# Altium footprint library Mechanical Components.PcbLib: 50 footprints (part 3 of 4)
Each footprint in its own frame and in the unit in brackets; x right, y up, seen from the top. Pads: shape width x height; smd on the part's side, far side on the other; paste and mask are expansions set on the pad; w line width, h text height; cw(c..) or ccw(c..) is an arc to the next point about the centre after c.
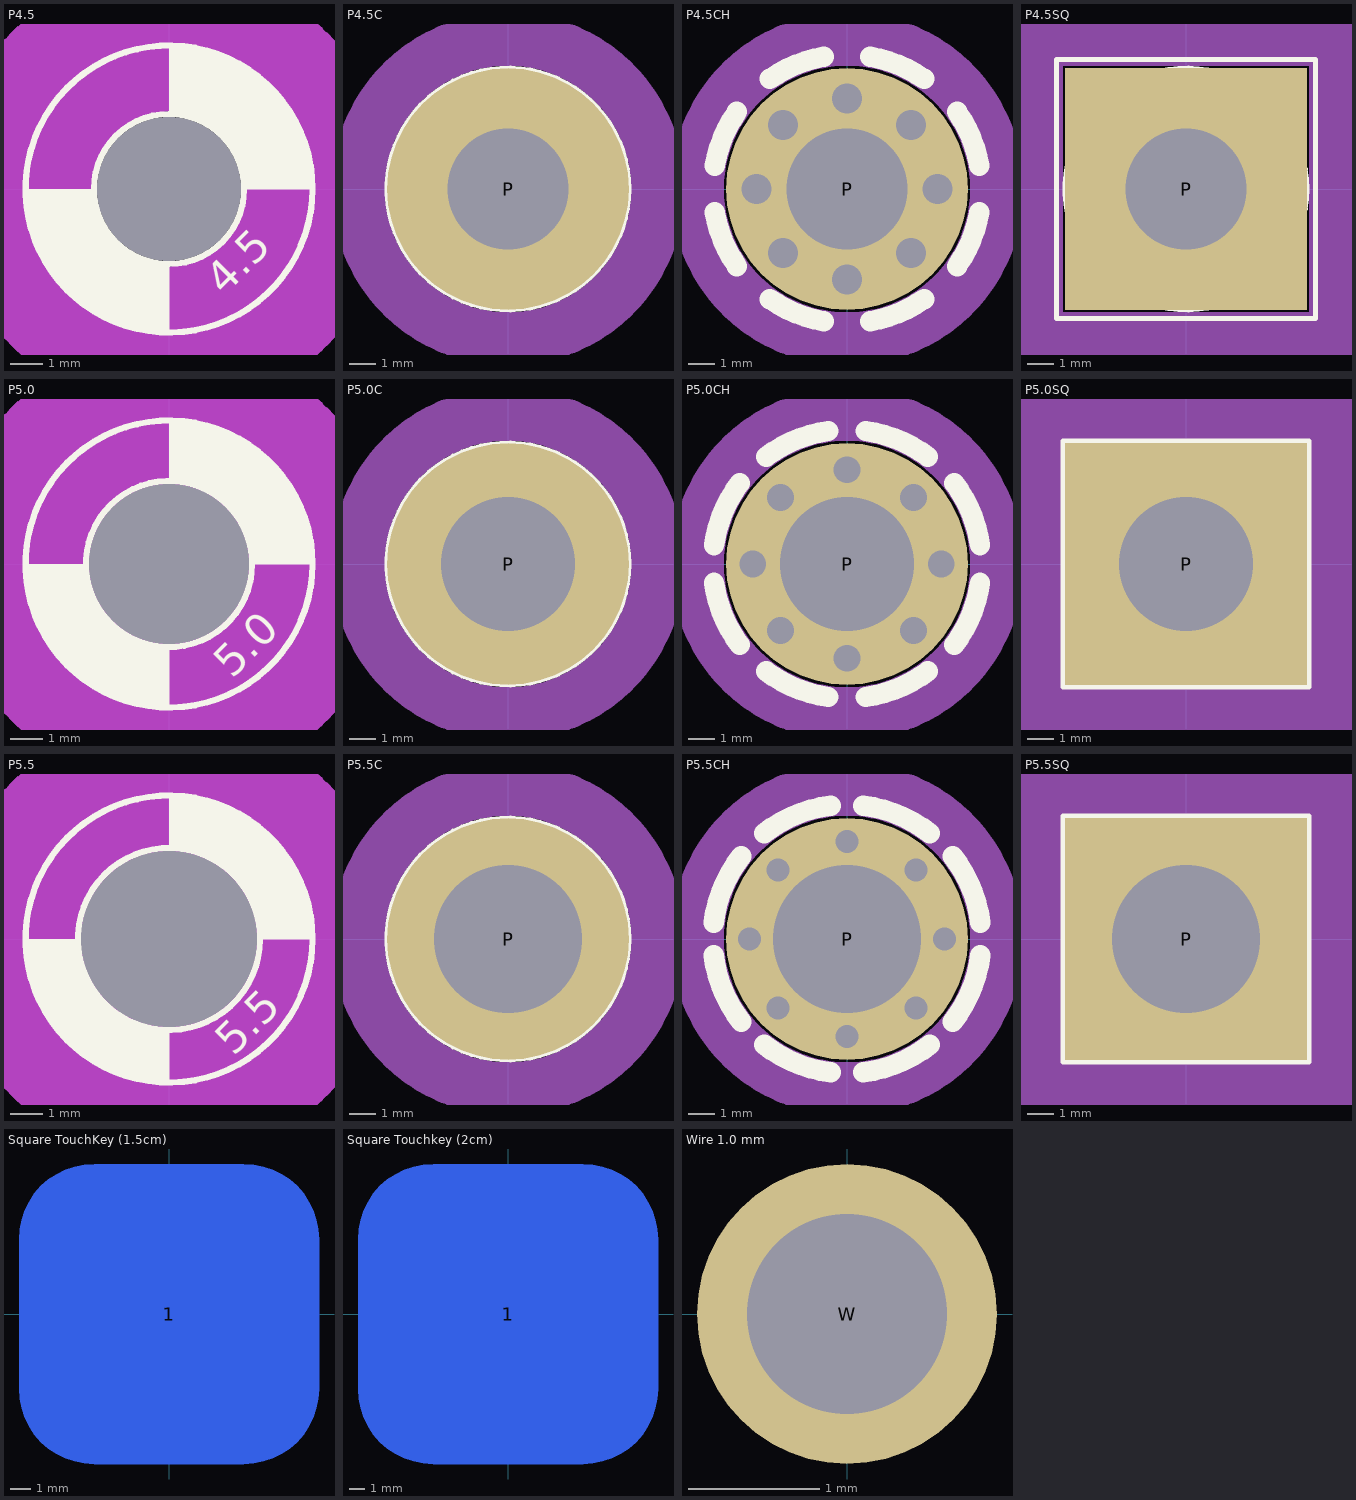
[diagram p2: the footprints below, top view; thin cyan lines are the x and y axes]

## P4.5 [mm] "MOUNTING HOLE 4.5 mm with drill center"
pads (1):
  round 0 hole 4.5 unplated: MH(0,0)
Top Overlay:
  circle w0.2: c0,0 r4.496
  circle w0.2: c0,0 r2.35
  region: 0,-2.35 -0.23,-2.339 -0.682,-2.249 -1.108,-2.073 -1.491,-1.817 -1.817,-1.491 -2.073,-1.108 -2.249,-0.682 -2.339,-0.23 -2.35,0 -4.496,0 -4.496,-0.295 -4.419,-0.879 -4.266,-1.448 -4.041,-1.993 -3.746,-2.503 -3.387,-2.971 -2.971,-3.387 -2.503,-3.746 -1.993,-4.041 -1.448,-4.266 -0.879,-4.419 -0.295,-4.496 0,-4.496
  region: 0,2.35 0.23,2.339 0.682,2.249 1.108,2.073 1.491,1.817 1.817,1.491 2.073,1.108 2.249,0.682 2.339,0.23 2.35,0 4.496,0 4.496,0.295 4.419,0.879 4.266,1.448 4.041,1.993 3.746,2.503 3.387,2.971 2.971,3.387 2.503,3.746 1.993,4.041 1.448,4.266 0.879,4.419 0.295,4.496 0,4.496
  text "4.5" at 1.727,-3.378 h1
Bottom Overlay:
  circle w0.2: c0,0 r2.35
  circle w0.2: c0,0 r4.496
  region: 0,2.35 0.23,2.339 0.682,2.249 1.108,2.073 1.491,1.817 1.817,1.491 2.073,1.108 2.249,0.682 2.339,0.23 2.35,0 4.496,0 4.496,0.295 4.419,0.879 4.266,1.448 4.041,1.993 3.746,2.503 3.387,2.971 2.971,3.387 2.503,3.746 1.993,4.041 1.448,4.266 0.879,4.419 0.295,4.496 0,4.496
  region: 0,-2.35 -0.23,-2.339 -0.682,-2.249 -1.108,-2.073 -1.491,-1.817 -1.817,-1.491 -2.073,-1.108 -2.249,-0.682 -2.339,-0.23 -2.35,0 -4.496,0 -4.496,-0.295 -4.419,-0.879 -4.266,-1.448 -4.041,-1.993 -3.746,-2.503 -3.387,-2.971 -2.971,-3.387 -2.503,-3.746 -1.993,-4.041 -1.448,-4.266 -0.879,-4.419 -0.295,-4.496 0,-4.496
Keep-Out Layer:
  circle w4.547: c0,0 r4.699
Mechanical 1:
  circle w4.547: c0,0 r4.699

## P4.5C [mm] "MOUNTING PAD 4.5 mm, round, 9.0 mm Diameter"
pads (1):
  round 9 hole 4.5: P(0,0)
Top Overlay:
  circle w0.2: c0,0 r2.35
  circle w0.2: c0,0 r4.496
  region: 0,2.35 0.23,2.339 0.682,2.249 1.108,2.073 1.491,1.817 1.817,1.491 2.073,1.108 2.249,0.682 2.339,0.23 2.35,0 4.496,0 4.496,0.295 4.419,0.879 4.266,1.448 4.041,1.993 3.746,2.503 3.387,2.971 2.971,3.387 2.503,3.746 1.993,4.041 1.448,4.266 0.879,4.419 0.295,4.496 0,4.496
  region: 0,-2.35 -0.23,-2.339 -0.682,-2.249 -1.108,-2.073 -1.491,-1.817 -1.817,-1.491 -2.073,-1.108 -2.249,-0.682 -2.339,-0.23 -2.35,0 -4.496,0 -4.496,-0.295 -4.419,-0.879 -4.266,-1.448 -4.041,-1.993 -3.746,-2.503 -3.387,-2.971 -2.971,-3.387 -2.503,-3.746 -1.993,-4.041 -1.448,-4.266 -0.879,-4.419 -0.295,-4.496 0,-4.496
  text "4.5" at 1.727,-3.378 h1
Bottom Overlay:
  circle w0.2: c0,0 r4.496
  circle w0.2: c0,0 r2.35
  region: 0,-2.35 -0.23,-2.339 -0.682,-2.249 -1.108,-2.073 -1.491,-1.817 -1.817,-1.491 -2.073,-1.108 -2.249,-0.682 -2.339,-0.23 -2.35,0 -4.496,0 -4.496,-0.295 -4.419,-0.879 -4.266,-1.448 -4.041,-1.993 -3.746,-2.503 -3.387,-2.971 -2.971,-3.387 -2.503,-3.746 -1.993,-4.041 -1.448,-4.266 -0.879,-4.419 -0.295,-4.496 0,-4.496
  region: 0,2.35 0.23,2.339 0.682,2.249 1.108,2.073 1.491,1.817 1.817,1.491 2.073,1.108 2.249,0.682 2.339,0.23 2.35,0 4.496,0 4.496,0.295 4.419,0.879 4.266,1.448 4.041,1.993 3.746,2.503 3.387,2.971 2.971,3.387 2.503,3.746 1.993,4.041 1.448,4.266 0.879,4.419 0.295,4.496 0,4.496
Mechanical 1:
  circle w2: c0,0 r5.588

## P4.5CH [mil] "MOUNTING PAD 4.5 mm, round, 9.0 mm Diameter; with Holes around it"
pads (9):
  round 0 hole 44 mask-50: P(-133,0) P(-94.05,-94.05) P(-94.05,94.05) P(0,-133) P(0,133) P(94.05,-94.05) P(94.05,94.05) P(133,0)
  round 354.33 hole 177.17: P(0,0)
Top Overlay:
  lines w30: -194.01,-34.21 ccw(c0,0) -161.37,-112.99 ; -194.01,34.21 cw(c0,0) -161.37,112.99 ; -112.99,-161.37 ccw(c0,0) -34.21,-194.01 ; -112.99,161.37 cw(c0,0) -34.21,194.01 ; 34.21,-194.01 ccw(c0,0) 112.99,-161.37 ; 34.21,194.01 cw(c0,0) 112.99,161.37 ; 161.37,-112.99 ccw(c0,0) 194.01,-34.21 ; 161.37,112.99 cw(c0,0) 194.01,34.21
Bottom Overlay:
  lines w30: -194.01,-34.21 ccw(c0,0) -161.37,-112.99 ; -194.01,34.21 cw(c0,0) -161.37,112.99 ; -112.99,-161.37 ccw(c0,0) -34.21,-194.01 ; -112.99,161.37 cw(c0,0) -34.21,194.01 ; 34.21,-194.01 ccw(c0,0) 112.99,-161.37 ; 34.21,194.01 cw(c0,0) 112.99,161.37 ; 161.37,-112.99 ccw(c0,0) 194.01,-34.21 ; 161.37,112.99 cw(c0,0) 194.01,34.21
Mechanical 1:
  circle w78.74: c0,0 r220

## P4.5SQ [mm] "MOUNTING PAD 4.5 mm, square, 9.0x9.0 mm"
pads (1):
  rect 9x9 hole 4.5: P(0,0)
Top Overlay:
  circle w0.2: c0,0 r2.35
  circle w0.2: c0,0 r4.496
  region: 0,2.35 0.23,2.339 0.682,2.249 1.108,2.073 1.491,1.817 1.817,1.491 2.073,1.108 2.249,0.682 2.339,0.23 2.35,0 4.496,0 4.496,0.295 4.419,0.879 4.266,1.448 4.041,1.993 3.746,2.503 3.387,2.971 2.971,3.387 2.503,3.746 1.993,4.041 1.448,4.266 0.879,4.419 0.295,4.496 0,4.496
  region: 0,-2.35 -0.23,-2.339 -0.682,-2.249 -1.108,-2.073 -1.491,-1.817 -1.817,-1.491 -2.073,-1.108 -2.249,-0.682 -2.339,-0.23 -2.35,0 -4.496,0 -4.496,-0.295 -4.419,-0.879 -4.266,-1.448 -4.041,-1.993 -3.746,-2.503 -3.387,-2.971 -2.971,-3.387 -2.503,-3.746 -1.993,-4.041 -1.448,-4.266 -0.879,-4.419 -0.295,-4.496 0,-4.496
  lines w0.2: -4.826,-4.826 4.826,-4.826 4.826,4.826 -4.826,4.826 -4.826,-4.826
  text "4.5" at 1.727,-3.378 h1
Bottom Overlay:
  circle w0.2: c0,0 r4.496
  circle w0.2: c0,0 r2.35
  region: 0,-2.35 -0.23,-2.339 -0.682,-2.249 -1.108,-2.073 -1.491,-1.817 -1.817,-1.491 -2.073,-1.108 -2.249,-0.682 -2.339,-0.23 -2.35,0 -4.496,0 -4.496,-0.295 -4.419,-0.879 -4.266,-1.448 -4.041,-1.993 -3.746,-2.503 -3.387,-2.971 -2.971,-3.387 -2.503,-3.746 -1.993,-4.041 -1.448,-4.266 -0.879,-4.419 -0.295,-4.496 0,-4.496
  region: 0,2.35 0.23,2.339 0.682,2.249 1.108,2.073 1.491,1.817 1.817,1.491 2.073,1.108 2.249,0.682 2.339,0.23 2.35,0 4.496,0 4.496,0.295 4.419,0.879 4.266,1.448 4.041,1.993 3.746,2.503 3.387,2.971 2.971,3.387 2.503,3.746 1.993,4.041 1.448,4.266 0.879,4.419 0.295,4.496 0,4.496
  lines w0.2: -4.826,-4.826 -4.826,4.826 4.826,4.826 4.826,-4.826 -4.826,-4.826
Mechanical 1:
  lines w2: -5.588,-5.588 5.588,-5.588 5.588,5.588 -5.588,5.588 -5.588,-5.588

## P5.0 [mm] "MOUNTING HOLE 5.0 mm with drill center"
pads (1):
  round 0 hole 5 unplated: MH(0,0)
Top Overlay:
  circle w0.2: c0,0 r2.6
  circle w0.2: c0,0 r4.496
  region: 0,2.6 0.255,2.587 0.755,2.488 1.226,2.293 1.649,2.01 2.01,1.649 2.293,1.226 2.488,0.755 2.587,0.255 2.6,0 4.496,0 4.496,0.295 4.419,0.879 4.266,1.448 4.041,1.993 3.746,2.503 3.387,2.971 2.971,3.387 2.503,3.746 1.993,4.041 1.448,4.266 0.879,4.419 0.295,4.496 0,4.496
  region: 0,-2.6 -0.255,-2.587 -0.755,-2.488 -1.226,-2.293 -1.649,-2.01 -2.01,-1.649 -2.293,-1.226 -2.488,-0.755 -2.587,-0.255 -2.6,0 -4.496,0 -4.496,-0.295 -4.419,-0.879 -4.266,-1.448 -4.041,-1.993 -3.746,-2.503 -3.387,-2.971 -2.971,-3.387 -2.503,-3.746 -1.993,-4.041 -1.448,-4.266 -0.879,-4.419 -0.295,-4.496 0,-4.496
  text "5.0" at 1.981,-3.632 h1
Bottom Overlay:
  circle w0.2: c0,0 r4.496
  circle w0.2: c0,0 r2.6
  region: 0,-2.6 -0.255,-2.587 -0.755,-2.488 -1.226,-2.293 -1.649,-2.01 -2.01,-1.649 -2.293,-1.226 -2.488,-0.755 -2.587,-0.255 -2.6,0 -4.496,0 -4.496,-0.295 -4.419,-0.879 -4.266,-1.448 -4.041,-1.993 -3.746,-2.503 -3.387,-2.971 -2.971,-3.387 -2.503,-3.746 -1.993,-4.041 -1.448,-4.266 -0.879,-4.419 -0.295,-4.496 0,-4.496
  region: 0,2.6 0.255,2.587 0.755,2.488 1.226,2.293 1.649,2.01 2.01,1.649 2.293,1.226 2.488,0.755 2.587,0.255 2.6,0 4.496,0 4.496,0.295 4.419,0.879 4.266,1.448 4.041,1.993 3.746,2.503 3.387,2.971 2.971,3.387 2.503,3.746 1.993,4.041 1.448,4.266 0.879,4.419 0.295,4.496 0,4.496
Keep-Out Layer:
  circle w4.547: c0,0 r4.699
Mechanical 1:
  circle w4.547: c0,0 r4.699

## P5.0C [mm] "MOUNTING PAD 5.0 mm, round, 9.0 mm Diameter"
pads (1):
  round 9 hole 5: P(0,0)
Top Overlay:
  circle w0.2: c0,0 r4.496
  circle w0.2: c0,0 r2.6
  region: 0,-2.6 -0.255,-2.587 -0.755,-2.488 -1.226,-2.293 -1.649,-2.01 -2.01,-1.649 -2.293,-1.226 -2.488,-0.755 -2.587,-0.255 -2.6,0 -4.496,0 -4.496,-0.295 -4.419,-0.879 -4.266,-1.448 -4.041,-1.993 -3.746,-2.503 -3.387,-2.971 -2.971,-3.387 -2.503,-3.746 -1.993,-4.041 -1.448,-4.266 -0.879,-4.419 -0.295,-4.496 0,-4.496
  region: 0,2.6 0.255,2.587 0.755,2.488 1.226,2.293 1.649,2.01 2.01,1.649 2.293,1.226 2.488,0.755 2.587,0.255 2.6,0 4.496,0 4.496,0.295 4.419,0.879 4.266,1.448 4.041,1.993 3.746,2.503 3.387,2.971 2.971,3.387 2.503,3.746 1.993,4.041 1.448,4.266 0.879,4.419 0.295,4.496 0,4.496
  text "5.0" at 1.981,-3.632 h1
Bottom Overlay:
  circle w0.2: c0,0 r2.6
  circle w0.2: c0,0 r4.496
  region: 0,2.6 0.255,2.587 0.755,2.488 1.226,2.293 1.649,2.01 2.01,1.649 2.293,1.226 2.488,0.755 2.587,0.255 2.6,0 4.496,0 4.496,0.295 4.419,0.879 4.266,1.448 4.041,1.993 3.746,2.503 3.387,2.971 2.971,3.387 2.503,3.746 1.993,4.041 1.448,4.266 0.879,4.419 0.295,4.496 0,4.496
  region: 0,-2.6 -0.255,-2.587 -0.755,-2.488 -1.226,-2.293 -1.649,-2.01 -2.01,-1.649 -2.293,-1.226 -2.488,-0.755 -2.587,-0.255 -2.6,0 -4.496,0 -4.496,-0.295 -4.419,-0.879 -4.266,-1.448 -4.041,-1.993 -3.746,-2.503 -3.387,-2.971 -2.971,-3.387 -2.503,-3.746 -1.993,-4.041 -1.448,-4.266 -0.879,-4.419 -0.295,-4.496 0,-4.496
Mechanical 1:
  circle w2: c0,0 r5.588

## P5.0CH [mil] "MOUNTING PAD 5.0 mm, round, 9.0 mm Diameter; with Holes around it"
pads (9):
  round 0 hole 39 mask-50: P(-138,0) P(-97.58,-97.58) P(-97.58,97.58) P(0,-138) P(0,138) P(97.58,-97.58) P(97.58,97.58) P(138,0)
  round 354.33 hole 196.85: P(0,0)
Top Overlay:
  lines w30: -195.08,-27.42 ccw(c0,0) -157.33,-118.56 ; -195.08,27.42 cw(c0,0) -157.33,118.56 ; -118.56,-157.33 ccw(c0,0) -27.42,-195.08 ; -118.56,157.33 cw(c0,0) -27.42,195.08 ; 27.42,-195.08 ccw(c0,0) 118.56,-157.33 ; 27.42,195.08 cw(c0,0) 118.56,157.33 ; 157.33,-118.56 ccw(c0,0) 195.08,-27.42 ; 157.33,118.56 cw(c0,0) 195.08,27.42
Bottom Overlay:
  lines w30: -195.08,-27.42 ccw(c0,0) -157.33,-118.56 ; -195.08,27.42 cw(c0,0) -157.33,118.56 ; -118.56,-157.33 ccw(c0,0) -27.42,-195.08 ; -118.56,157.33 cw(c0,0) -27.42,195.08 ; 27.42,-195.08 ccw(c0,0) 118.56,-157.33 ; 27.42,195.08 cw(c0,0) 118.56,157.33 ; 157.33,-118.56 ccw(c0,0) 195.08,-27.42 ; 157.33,118.56 cw(c0,0) 195.08,27.42
Mechanical 1:
  circle w78.74: c0,0 r220

## P5.0SQ [mm] "MOUNTING PAD 5.0 mm, square, 9.0x9.0 mm"
pads (1):
  rect 9x9 hole 5: P(0,0)
Top Overlay:
  circle w0.2: c0,0 r4.496
  circle w0.2: c0,0 r2.6
  region: 0,-2.6 -0.255,-2.587 -0.755,-2.488 -1.226,-2.293 -1.649,-2.01 -2.01,-1.649 -2.293,-1.226 -2.488,-0.755 -2.587,-0.255 -2.6,0 -4.496,0 -4.496,-0.295 -4.419,-0.879 -4.266,-1.448 -4.041,-1.993 -3.746,-2.503 -3.387,-2.971 -2.971,-3.387 -2.503,-3.746 -1.993,-4.041 -1.448,-4.266 -0.879,-4.419 -0.295,-4.496 0,-4.496
  region: 0,2.6 0.255,2.587 0.755,2.488 1.226,2.293 1.649,2.01 2.01,1.649 2.293,1.226 2.488,0.755 2.587,0.255 2.6,0 4.496,0 4.496,0.295 4.419,0.879 4.266,1.448 4.041,1.993 3.746,2.503 3.387,2.971 2.971,3.387 2.503,3.746 1.993,4.041 1.448,4.266 0.879,4.419 0.295,4.496 0,4.496
  lines w0.203: -4.572,-4.572 4.572,-4.572 4.572,4.572 -4.572,4.572 -4.572,-4.572
  text "5.0" at 1.981,-3.632 h1
Bottom Overlay:
  circle w0.2: c0,0 r2.6
  circle w0.2: c0,0 r4.496
  region: 0,2.6 0.255,2.587 0.755,2.488 1.226,2.293 1.649,2.01 2.01,1.649 2.293,1.226 2.488,0.755 2.587,0.255 2.6,0 4.496,0 4.496,0.295 4.419,0.879 4.266,1.448 4.041,1.993 3.746,2.503 3.387,2.971 2.971,3.387 2.503,3.746 1.993,4.041 1.448,4.266 0.879,4.419 0.295,4.496 0,4.496
  region: 0,-2.6 -0.255,-2.587 -0.755,-2.488 -1.226,-2.293 -1.649,-2.01 -2.01,-1.649 -2.293,-1.226 -2.488,-0.755 -2.587,-0.255 -2.6,0 -4.496,0 -4.496,-0.295 -4.419,-0.879 -4.266,-1.448 -4.041,-1.993 -3.746,-2.503 -3.387,-2.971 -2.971,-3.387 -2.503,-3.746 -1.993,-4.041 -1.448,-4.266 -0.879,-4.419 -0.295,-4.496 0,-4.496
  lines w0.203: -4.572,-4.572 -4.572,4.572 4.572,4.572 4.572,-4.572 -4.572,-4.572
Mechanical 1:
  lines w2: -5.588,-5.588 -5.588,5.588 5.588,5.588 5.588,-5.588 -5.588,-5.588

## P5.5 [mm] "MOUNTING HOLE 5.5 mm with drill center"
pads (1):
  round 0 hole 5.5 unplated: MH(0,0)
Top Overlay:
  circle w0.2: c0,0 r2.85
  circle w0.2: c0,0 r4.496
  region: 0,2.85 0.186,2.844 0.556,2.795 0.916,2.699 1.261,2.556 1.583,2.37 1.879,2.143 2.143,1.879 2.37,1.583 2.556,1.261 2.699,0.916 2.795,0.556 2.844,0.186 2.85,0 4.496,0 4.496,0.295 4.419,0.879 4.266,1.448 4.041,1.993 3.746,2.503 3.387,2.971 2.971,3.387 2.503,3.746 1.993,4.041 1.448,4.266 0.879,4.419 0.295,4.496 0,4.496
  region: 0,-2.85 -0.186,-2.844 -0.556,-2.795 -0.916,-2.699 -1.261,-2.556 -1.583,-2.37 -1.879,-2.143 -2.143,-1.879 -2.37,-1.583 -2.556,-1.261 -2.699,-0.916 -2.795,-0.556 -2.844,-0.186 -2.85,0 -4.496,0 -4.496,-0.295 -4.419,-0.879 -4.266,-1.448 -4.041,-1.993 -3.746,-2.503 -3.387,-2.971 -2.971,-3.387 -2.503,-3.746 -1.993,-4.041 -1.448,-4.266 -0.879,-4.419 -0.295,-4.496 0,-4.496
  text "5.5" at 2.032,-3.708 h1
Bottom Overlay:
  circle w0.2: c0,0 r4.496
  circle w0.2: c0,0 r2.85
  region: 0,-2.85 -0.186,-2.844 -0.556,-2.795 -0.916,-2.699 -1.261,-2.556 -1.583,-2.37 -1.879,-2.143 -2.143,-1.879 -2.37,-1.583 -2.556,-1.261 -2.699,-0.916 -2.795,-0.556 -2.844,-0.186 -2.85,0 -4.496,0 -4.496,-0.295 -4.419,-0.879 -4.266,-1.448 -4.041,-1.993 -3.746,-2.503 -3.387,-2.971 -2.971,-3.387 -2.503,-3.746 -1.993,-4.041 -1.448,-4.266 -0.879,-4.419 -0.295,-4.496 0,-4.496
  region: 0,2.85 0.186,2.844 0.556,2.795 0.916,2.699 1.261,2.556 1.583,2.37 1.879,2.143 2.143,1.879 2.37,1.583 2.556,1.261 2.699,0.916 2.795,0.556 2.844,0.186 2.85,0 4.496,0 4.496,0.295 4.419,0.879 4.266,1.448 4.041,1.993 3.746,2.503 3.387,2.971 2.971,3.387 2.503,3.746 1.993,4.041 1.448,4.266 0.879,4.419 0.295,4.496 0,4.496
Keep-Out Layer:
  circle w4.547: c0,0 r4.699
Mechanical 1:
  circle w4.547: c0,0 r4.699

## P5.5C [mm] "MOUNTING PAD 5.5 mm, round, 9.0 mm Diameter"
pads (1):
  round 9 hole 5.5: P(0,0)
Top Overlay:
  circle w0.2: c0,0 r2.85
  circle w0.2: c0,0 r4.496
  region: 0,2.85 0.186,2.844 0.556,2.795 0.916,2.699 1.261,2.556 1.583,2.37 1.879,2.143 2.143,1.879 2.37,1.583 2.556,1.261 2.699,0.916 2.795,0.556 2.844,0.186 2.85,0 4.496,0 4.496,0.295 4.419,0.879 4.266,1.448 4.041,1.993 3.746,2.503 3.387,2.971 2.971,3.387 2.503,3.746 1.993,4.041 1.448,4.266 0.879,4.419 0.295,4.496 0,4.496
  region: 0,-2.85 -0.186,-2.844 -0.556,-2.795 -0.916,-2.699 -1.261,-2.556 -1.583,-2.37 -1.879,-2.143 -2.143,-1.879 -2.37,-1.583 -2.556,-1.261 -2.699,-0.916 -2.795,-0.556 -2.844,-0.186 -2.85,0 -4.496,0 -4.496,-0.295 -4.419,-0.879 -4.266,-1.448 -4.041,-1.993 -3.746,-2.503 -3.387,-2.971 -2.971,-3.387 -2.503,-3.746 -1.993,-4.041 -1.448,-4.266 -0.879,-4.419 -0.295,-4.496 0,-4.496
  text "5.5" at 2.032,-3.708 h1
Bottom Overlay:
  circle w0.2: c0,0 r4.496
  circle w0.2: c0,0 r2.85
  region: 0,-2.85 -0.186,-2.844 -0.556,-2.795 -0.916,-2.699 -1.261,-2.556 -1.583,-2.37 -1.879,-2.143 -2.143,-1.879 -2.37,-1.583 -2.556,-1.261 -2.699,-0.916 -2.795,-0.556 -2.844,-0.186 -2.85,0 -4.496,0 -4.496,-0.295 -4.419,-0.879 -4.266,-1.448 -4.041,-1.993 -3.746,-2.503 -3.387,-2.971 -2.971,-3.387 -2.503,-3.746 -1.993,-4.041 -1.448,-4.266 -0.879,-4.419 -0.295,-4.496 0,-4.496
  region: 0,2.85 0.186,2.844 0.556,2.795 0.916,2.699 1.261,2.556 1.583,2.37 1.879,2.143 2.143,1.879 2.37,1.583 2.556,1.261 2.699,0.916 2.795,0.556 2.844,0.186 2.85,0 4.496,0 4.496,0.295 4.419,0.879 4.266,1.448 4.041,1.993 3.746,2.503 3.387,2.971 2.971,3.387 2.503,3.746 1.993,4.041 1.448,4.266 0.879,4.419 0.295,4.496 0,4.496
Mechanical 1:
  circle w2: c0,0 r5.588

## P5.5CH [mil] "MOUNTING PAD 5.5 mm, round, 9.0 mm Diameter; with Holes around it"
pads (9):
  round 0 hole 34 mask-50: P(-143,0) P(-101.12,-101.12) P(-101.12,101.12) P(0,-143) P(0,143) P(101.12,-101.12) P(101.12,101.12) P(143,0)
  round 354.33 hole 216.54: P(0,0)
Top Overlay:
  lines w30: -195.53,-24.01 ccw(c0,0) -155.24,-121.29 ; -195.53,24.01 cw(c0,0) -155.24,121.29 ; -121.29,-155.24 ccw(c0,0) -24.01,-195.53 ; -121.29,155.24 cw(c0,0) -24.01,195.53 ; 24.01,-195.53 ccw(c0,0) 121.29,-155.24 ; 24.01,195.53 cw(c0,0) 121.29,155.24 ; 155.24,-121.29 ccw(c0,0) 195.53,-24.01 ; 155.24,121.29 cw(c0,0) 195.53,24.01
Bottom Overlay:
  lines w30: -195.53,-24.01 ccw(c0,0) -155.24,-121.29 ; -195.53,24.01 cw(c0,0) -155.24,121.29 ; -121.29,-155.24 ccw(c0,0) -24.01,-195.53 ; -121.29,155.24 cw(c0,0) -24.01,195.53 ; 24.01,-195.53 ccw(c0,0) 121.29,-155.24 ; 24.01,195.53 cw(c0,0) 121.29,155.24 ; 155.24,-121.29 ccw(c0,0) 195.53,-24.01 ; 155.24,121.29 cw(c0,0) 195.53,24.01
Mechanical 1:
  circle w78.74: c0,0 r220

## P5.5SQ [mm] "MOUNTING PAD 5.5 mm, square, 9.0x9.0 mm"
pads (1):
  rect 9x9 hole 5.5: P(0,0)
Top Overlay:
  circle w0.2: c0,0 r2.85
  circle w0.2: c0,0 r4.496
  region: 0,2.85 0.186,2.844 0.556,2.795 0.916,2.699 1.261,2.556 1.583,2.37 1.879,2.143 2.143,1.879 2.37,1.583 2.556,1.261 2.699,0.916 2.795,0.556 2.844,0.186 2.85,0 4.496,0 4.496,0.295 4.419,0.879 4.266,1.448 4.041,1.993 3.746,2.503 3.387,2.971 2.971,3.387 2.503,3.746 1.993,4.041 1.448,4.266 0.879,4.419 0.295,4.496 0,4.496
  region: 0,-2.85 -0.186,-2.844 -0.556,-2.795 -0.916,-2.699 -1.261,-2.556 -1.583,-2.37 -1.879,-2.143 -2.143,-1.879 -2.37,-1.583 -2.556,-1.261 -2.699,-0.916 -2.795,-0.556 -2.844,-0.186 -2.85,0 -4.496,0 -4.496,-0.295 -4.419,-0.879 -4.266,-1.448 -4.041,-1.993 -3.746,-2.503 -3.387,-2.971 -2.971,-3.387 -2.503,-3.746 -1.993,-4.041 -1.448,-4.266 -0.879,-4.419 -0.295,-4.496 0,-4.496
  lines w0.203: -4.572,-4.572 -4.572,4.572 4.572,4.572 4.572,-4.572 -4.572,-4.572
  text "5.5" at 2.032,-3.708 h1
Bottom Overlay:
  circle w0.2: c0,0 r4.496
  circle w0.2: c0,0 r2.85
  region: 0,-2.85 -0.186,-2.844 -0.556,-2.795 -0.916,-2.699 -1.261,-2.556 -1.583,-2.37 -1.879,-2.143 -2.143,-1.879 -2.37,-1.583 -2.556,-1.261 -2.699,-0.916 -2.795,-0.556 -2.844,-0.186 -2.85,0 -4.496,0 -4.496,-0.295 -4.419,-0.879 -4.266,-1.448 -4.041,-1.993 -3.746,-2.503 -3.387,-2.971 -2.971,-3.387 -2.503,-3.746 -1.993,-4.041 -1.448,-4.266 -0.879,-4.419 -0.295,-4.496 0,-4.496
  region: 0,2.85 0.186,2.844 0.556,2.795 0.916,2.699 1.261,2.556 1.583,2.37 1.879,2.143 2.143,1.879 2.37,1.583 2.556,1.261 2.699,0.916 2.795,0.556 2.844,0.186 2.85,0 4.496,0 4.496,0.295 4.419,0.879 4.266,1.448 4.041,1.993 3.746,2.503 3.387,2.971 2.971,3.387 2.503,3.746 1.993,4.041 1.448,4.266 0.879,4.419 0.295,4.496 0,4.496
  lines w0.203: -4.572,-4.572 4.572,-4.572 4.572,4.572 -4.572,4.572 -4.572,-4.572
Mechanical 1:
  lines w2: -5.588,-5.588 5.588,-5.588 5.588,5.588 -5.588,5.588 -5.588,-5.588

## SCREW M3 [mil]
3D body "User Library-M3x0_5xL Phillips Panhead Screw7mm.STEP": height 93.73, standoff -275.59, extent -130.23,-120.23 90.24,100.24

## Square TouchKey (1.5cm) [mm]
pads (1):
  rrect50% 15x15 smd far side: 1(0,0)

## Square Touchkey (2cm) [mm]
pads (1):
  rrect50% 20x20 smd far side: 1(0,0)

## Wire 1.0 mm [mil]
pads (1):
  round 90 hole 60: W(0,0)
3D body: height 118.11, standoff -78.74, extent -19.53,-19.64 19.69,19.65
3D body: height 204.72, standoff 7.87, extent -35.15,-35.36 35.44,35.37